# EAGLE library part 74*4078 (library 74ttl-din)
8-input OR/NOR, complementary outputs
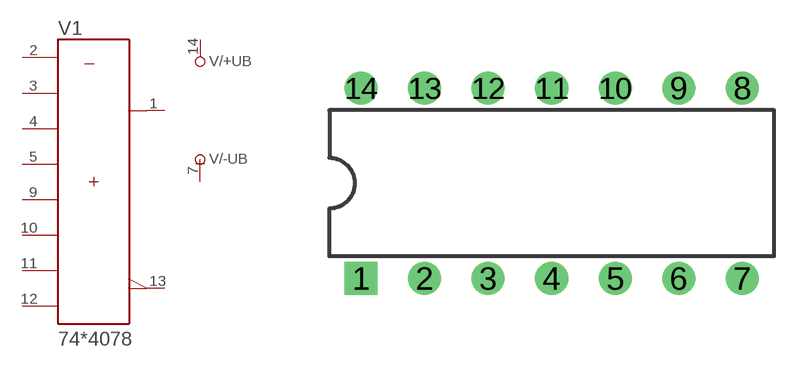
[diagram p123: symbol with the pads of DIL14; footprint DIL14]

Designator prefix V; gates /+UB=+UB /-UB=-UB 1=4078

## 744078N  [DIL14]
1  1:Y  out
2  1:A  in
3  1:B  in
4  1:C  in
5  1:D  in
7  /-UB:-UB  pwr
9  1:E  in
10  1:F  in
11  1:G  in
12  1:H  in
13  1:W  out
14  /+UB:+UB  pwr

## Footprint DIL14 (pad centres in mm)
Dual In Line Package
drill 0.813 square: 1 -7.62,-3.81
drill 0.813: 2 -5.08,-3.81; 3 -2.54,-3.81; 4 0,-3.81; 5 2.54,-3.81; 6 5.08,-3.81; 7 7.62,-3.81; 8 7.62,3.81; 9 5.08,3.81; 10 2.54,3.81; 11 0,3.81; 12 -2.54,3.81; 13 -5.08,3.81; 14 -7.62,3.81